# EAGLE library part SD (library components)
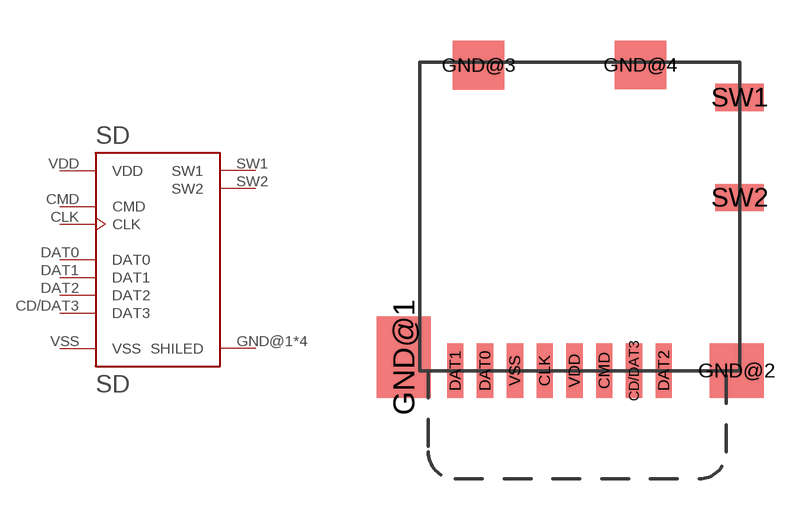
[diagram p1: symbol with the pads of MOLEX-SD-104031; footprint MOLEX-SD-104031]

Designator prefix SD

## SD  [MOLEX-SD-104031]
CD/DAT3  DAT3
CLK  CLK  in
CMD  CMD  in
DAT0  DAT0
DAT1  DAT1
DAT2  DAT2
GND@1  SHILED
GND@2  SHILED
GND@3  SHILED
GND@4  SHILED
SW1  SW1
SW2  SW2
VDD  VDD  pwr
VSS  VSS  pas

## Footprint MOLEX-SD-104031 (pad centres in mm)
smd 0.6 x 2: CD/DAT3 2.005,0; CLK -1.295,0; CMD 0.905,0; DAT0 -3.495,0; DAT1 -4.595,0; DAT2 3.105,0; VDD -0.195,0; VSS -2.395,0
smd 2 x 3: GND@1 -6.5,0.5
smd 2 x 2: GND@2 5.8,0
smd 1.9 x 1.8: GND@3 -3.73,11.29; GND@4 2.24,11.3
smd 1.8 x 1: SW1 5.9,10.1; SW2 5.9,6.4